# Altium schematic symbol library ul_VS10MQ100NPBF.SchLib: 2 symbols
Pins are listed as number, name and electrical type; pins without a type are passive.

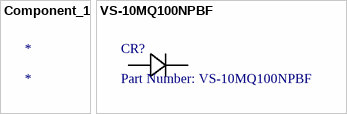
[diagram p0: symbols Component_1 to VS-10MQ100NPBF]

## Component_1
designator *

## VS-10MQ100NPBF
designator CR?, comment Part Number: VS-10MQ100NPBF
No Description Available; Vendor: Vishay; Built_By: EMA_UL_Team; Type: DEV; Manufacturer_Part_Number: VS-10MQ100NPBF; Copyright: Copyright (C) 2018 Accelerated Designs. All rights reserved; RefDes: RefDes; Value: Value
footprint DIODE_SMA
pins: 1, 2